# Altium footprint library CONN HDR1x6 070543.PcbLib: 1 footprints
Each footprint in its own frame and in the unit in brackets; x right, y up, seen from the top. Pads: shape width x height; smd on the part's side, far side on the other; paste and mask are expansions set on the pad; w line width, h text height; cw(c..) or ccw(c..) is an arc to the next point about the centre after c.
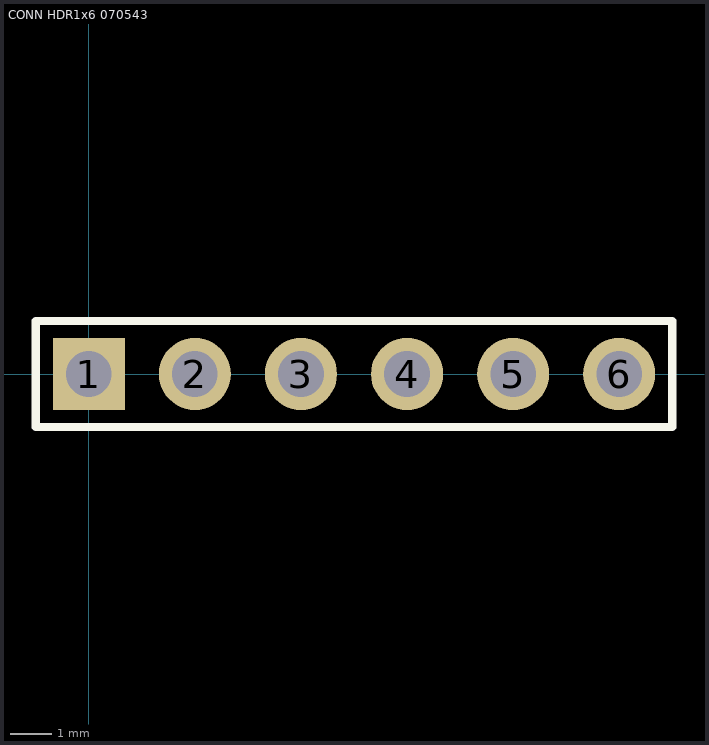
[diagram p0: the footprint, top view; thin cyan lines are the x and y axes]

## CONN HDR1x6 070543 [mil] "Connector; Header; 6 Position"
pads (6):
  rect 68x68 hole 43: 1(0,0)
  round 68 hole 43: 2(100,0) 3(200,0) 4(300,0) 5(400,0) 6(500,0)
Top Overlay:
  lines w7.87: -50,-50 550,-50 550,50 -50,50 -50,-50
3D body: height 465.6, standoff -129.4, extent -100,-160 600,100